# Altium footprint library SM_DIODE_TO277.PcbLib: 1 footprints
Each footprint in its own frame and in the unit in brackets; x right, y up, seen from the top. Pads: shape width x height; smd on the part's side, far side on the other; paste and mask are expansions set on the pad; w line width, h text height; cw(c..) or ccw(c..) is an arc to the next point about the centre after c.
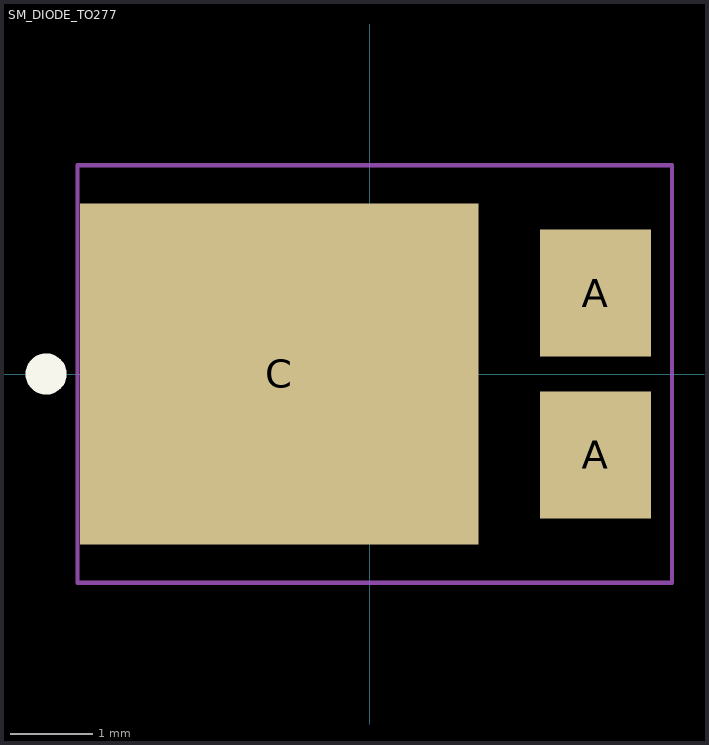
[diagram p0: the footprint, top view; thin cyan lines are the x and y axes]

## SM_DIODE_TO277 [mm] "TO277"
height 1.2
pads (3):
  rect 1.35x1.55 smd: A(2.75,-0.985) A(2.75,0.985)
  rect 4.85x4.15 smd: C(-1.1,0)
Top Overlay:
  circle w0.25: c-3.937,0 r0.125
Mechanical 15:
  lines w0.05: -3.556,-2.54 3.683,-2.54 3.683,2.54 -3.556,2.54 -3.556,-2.54
  lines w0.1: -0.5,0 0.5,0 ; 0,-0.5 0,0.5
3D body "User Library-TO-277A(SMPC).step": height 1.2, standoff 0, extent -3.325,-2.375 3.325,2.375